# Altium schematic symbol library Schlib.SchLib: 10 symbols
Pins are listed as number, name and electrical type; pins without a type are passive.

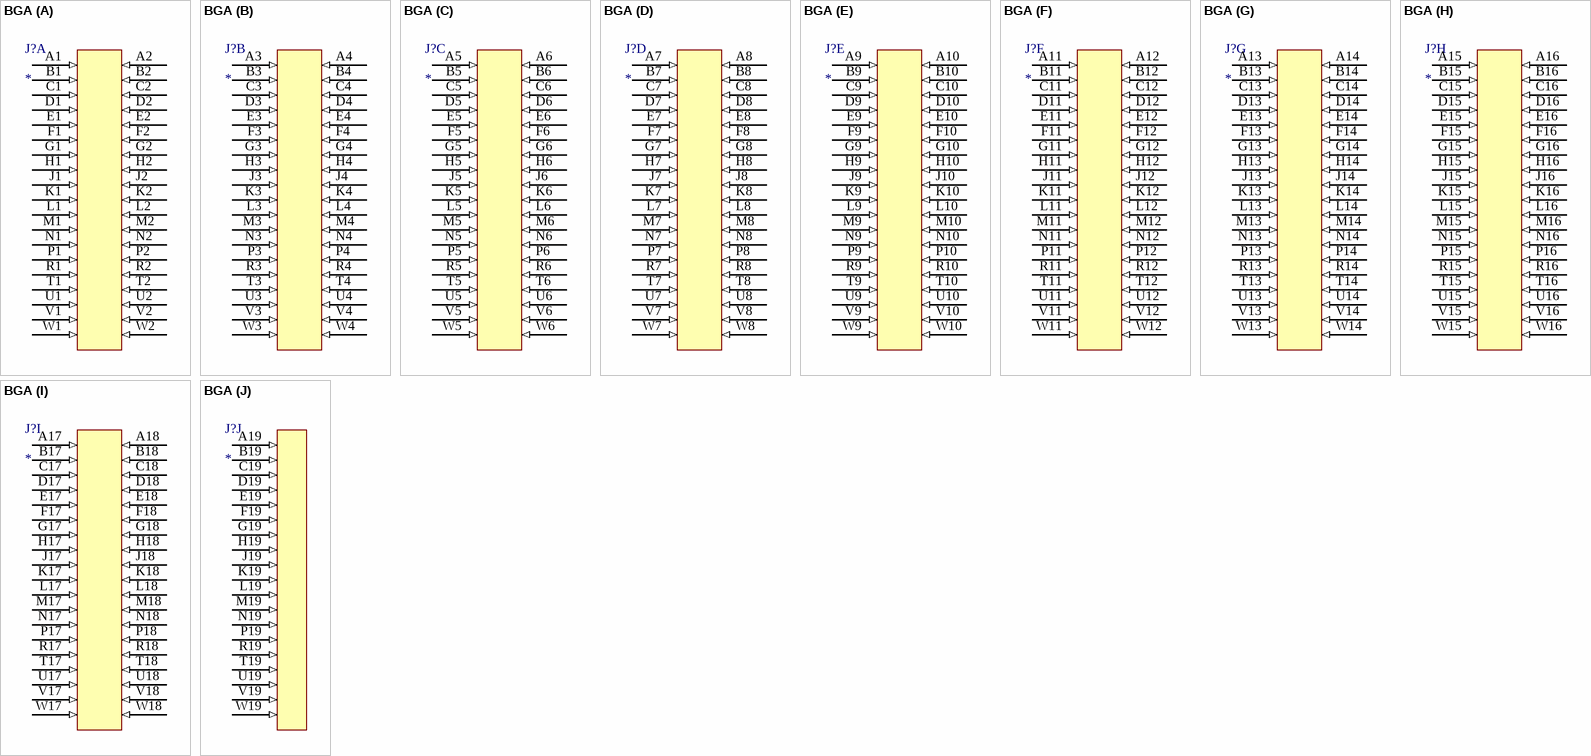
[diagram p0: symbol BGA]

## BGA
designator J?
footprint BGA361x19
part A pins: A1 (in), A2 (in), B1 (in), B2 (in), C1 (in), C2 (in), D1 (in), D2 (in), E1 (in), E2 (in), F1 (in), F2 (in), G1 (in), G2 (in), H1 (in), H2 (in), J1 (in), J2 (in), K1 (in), K2 (in), L1 (in), L2 (in), M1 (in), M2 (in), N1 (in), N2 (in), P1 (in), P2 (in), R1 (in), R2 (in), T1 (in), T2 (in), U1 (in), U2 (in), V1 (in), V2 (in), W1 (in), W2 (in)
part B pins: A3 (in), A4 (in), B3 (in), B4 (in), C3 (in), C4 (in), D3 (in), D4 (in), E3 (in), E4 (in), F3 (in), F4 (in), G3 (in), G4 (in), H3 (in), H4 (in), J3 (in), J4 (in), K3 (in), K4 (in), L3 (in), L4 (in), M3 (in), M4 (in), N3 (in), N4 (in), P3 (in), P4 (in), R3 (in), R4 (in), T3 (in), T4 (in), U3 (in), U4 (in), V3 (in), V4 (in), W3 (in), W4 (in)
part C pins: A5 (in), A6 (in), B5 (in), B6 (in), C5 (in), C6 (in), D5 (in), D6 (in), E5 (in), E6 (in), F5 (in), F6 (in), G5 (in), G6 (in), H5 (in), H6 (in), J5 (in), J6 (in), K5 (in), K6 (in), L5 (in), L6 (in), M5 (in), M6 (in), N5 (in), N6 (in), P5 (in), P6 (in), R5 (in), R6 (in), T5 (in), T6 (in), U5 (in), U6 (in), V5 (in), V6 (in), W5 (in), W6 (in)
part D pins: A7 (in), A8 (in), B7 (in), B8 (in), C7 (in), C8 (in), D7 (in), D8 (in), E7 (in), E8 (in), F7 (in), F8 (in), G7 (in), G8 (in), H7 (in), H8 (in), J7 (in), J8 (in), K7 (in), K8 (in), L7 (in), L8 (in), M7 (in), M8 (in), N7 (in), N8 (in), P7 (in), P8 (in), R7 (in), R8 (in), T7 (in), T8 (in), U7 (in), U8 (in), V7 (in), V8 (in), W7 (in), W8 (in)
part E pins: A9 (in), A10 (in), B9 (in), B10 (in), C9 (in), C10 (in), D9 (in), D10 (in), E9 (in), E10 (in), F9 (in), F10 (in), G9 (in), G10 (in), H9 (in), H10 (in), J9 (in), J10 (in), K9 (in), K10 (in), L9 (in), L10 (in), M9 (in), M10 (in), N9 (in), N10 (in), P9 (in), P10 (in), R9 (in), R10 (in), T9 (in), T10 (in), U9 (in), U10 (in), V9 (in), V10 (in), W9 (in), W10 (in)
part F pins: A11 (in), A12 (in), B11 (in), B12 (in), C11 (in), C12 (in), D11 (in), D12 (in), E11 (in), E12 (in), F11 (in), F12 (in), G11 (in), G12 (in), H11 (in), H12 (in), J11 (in), J12 (in), K11 (in), K12 (in), L11 (in), L12 (in), M11 (in), M12 (in), N11 (in), N12 (in), P11 (in), P12 (in), R11 (in), R12 (in), T11 (in), T12 (in), U11 (in), U12 (in), V11 (in), V12 (in), W11 (in), W12 (in)
part G pins: A13 (in), A14 (in), B13 (in), B14 (in), C13 (in), C14 (in), D13 (in), D14 (in), E13 (in), E14 (in), F13 (in), F14 (in), G13 (in), G14 (in), H13 (in), H14 (in), J13 (in), J14 (in), K13 (in), K14 (in), L13 (in), L14 (in), M13 (in), M14 (in), N13 (in), N14 (in), P13 (in), P14 (in), R13 (in), R14 (in), T13 (in), T14 (in), U13 (in), U14 (in), V13 (in), V14 (in), W13 (in), W14 (in)
part H pins: A15 (in), A16 (in), B15 (in), B16 (in), C15 (in), C16 (in), D15 (in), D16 (in), E15 (in), E16 (in), F15 (in), F16 (in), G15 (in), G16 (in), H15 (in), H16 (in), J15 (in), J16 (in), K15 (in), K16 (in), L15 (in), L16 (in), M15 (in), M16 (in), N15 (in), N16 (in), P15 (in), P16 (in), R15 (in), R16 (in), T15 (in), T16 (in), U15 (in), U16 (in), V15 (in), V16 (in), W15 (in), W16 (in)
part I pins: A17 (in), A18 (in), B17 (in), B18 (in), C17 (in), C18 (in), D17 (in), D18 (in), E17 (in), E18 (in), F17 (in), F18 (in), G17 (in), G18 (in), H17 (in), H18 (in), J17 (in), J18 (in), K17 (in), K18 (in), L17 (in), L18 (in), M17 (in), M18 (in), N17 (in), N18 (in), P17 (in), P18 (in), R17 (in), R18 (in), T17 (in), T18 (in), U17 (in), U18 (in), V17 (in), V18 (in), W17 (in), W18 (in)
part J pins: A19 (in), B19 (in), C19 (in), D19 (in), E19 (in), F19 (in), G19 (in), H19 (in), J19 (in), K19 (in), L19 (in), M19 (in), N19 (in), P19 (in), R19 (in), T19 (in), U19 (in), V19 (in), W19 (in)

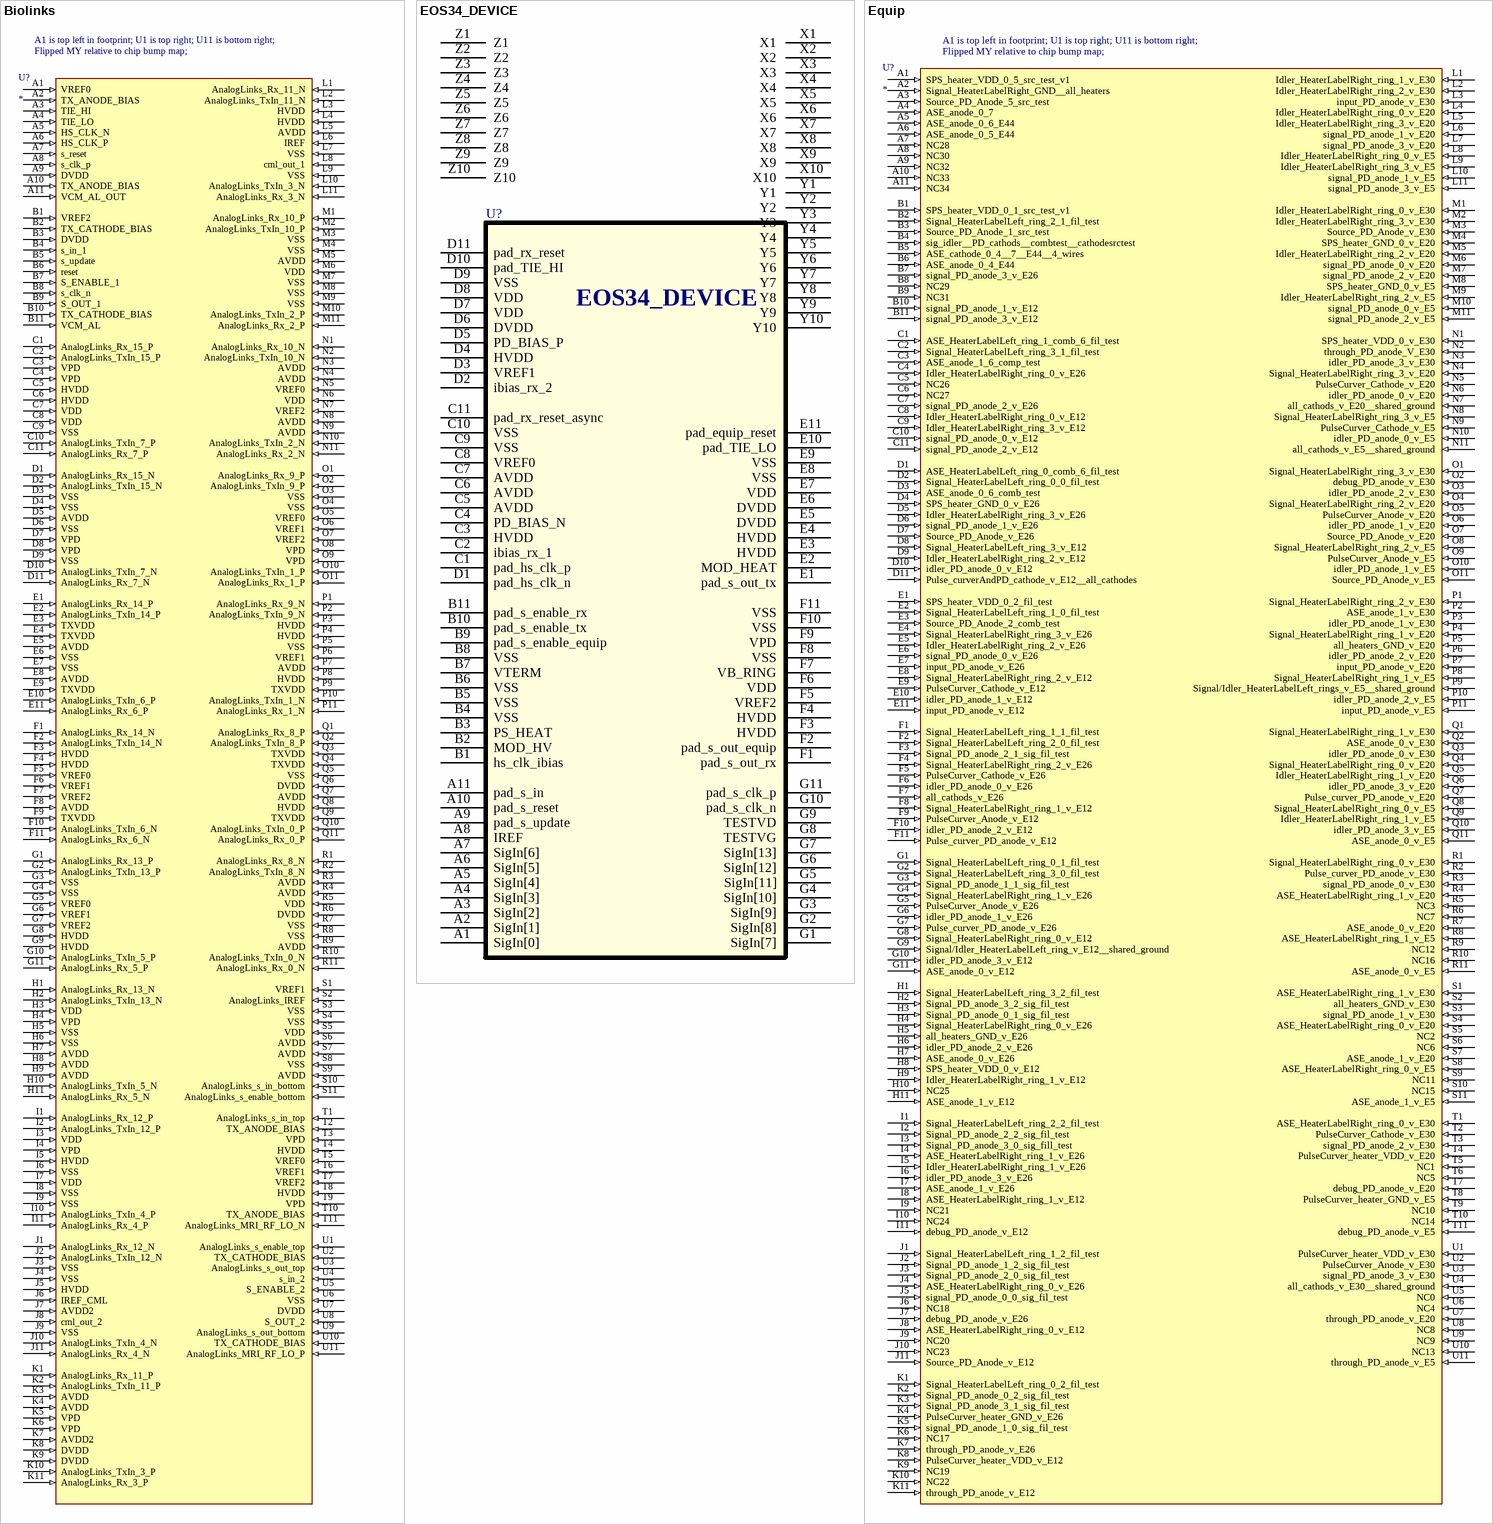
[diagram p1: symbols Biolinks to Equip]

## Biolinks
designator U?
footprint Bart_Bravo (Footprint for the 11 row, 21 column pad array used in Bravo Bart designs)
pins: A1 VREF0 (in), A2 TX_ANODE_BIAS (in), A3 TIE_HI (in), A4 TIE_LO (in), A5 HS_CLK_N (in), A6 HS_CLK_P (in), A7 s_reset (in), A8 s_clk_p (in), A9 DVDD (in), A10 TX_ANODE_BIAS (in), A11 VCM_AL_OUT (in), B1 VREF2 (in), B2 TX_CATHODE_BIAS (in), B3 DVDD (in), B4 s_in_1 (in), B5 s_update (in), B6 reset (in), B7 S_ENABLE_1 (in), B8 s_clk_n (in), B9 S_OUT_1 (in), B10 TX_CATHODE_BIAS (in), B11 VCM_AL (in), C1 AnalogLinks_Rx_15_P (in), C2 AnalogLinks_TxIn_15_P (in), C3 VPD (in), C4 VPD (in), C5 HVDD (in), C6 HVDD (in), C7 VDD (in), C8 VDD (in), C9 VSS (in), C10 AnalogLinks_TxIn_7_P (in), C11 AnalogLinks_Rx_7_P (in), D1 AnalogLinks_Rx_15_N (in), D2 AnalogLinks_TxIn_15_N (in), D3 VSS (in), D4 VSS (in), D5 AVDD (in), D6 VSS (in), D7 VPD (in), D8 VPD (in), D9 VSS (in), D10 AnalogLinks_TxIn_7_N (in), D11 AnalogLinks_Rx_7_N (in), E1 AnalogLinks_Rx_14_P (in), E2 AnalogLinks_TxIn_14_P (in), E3 TXVDD (in), E4 TXVDD (in), E5 AVDD (in), E6 VSS (in), E7 VSS (in), E8 AVDD (in), E9 TXVDD (in), E10 AnalogLinks_TxIn_6_P (in), E11 AnalogLinks_Rx_6_P (in), F1 AnalogLinks_Rx_14_N (in), F2 AnalogLinks_TxIn_14_N (in), F3 HVDD (in), F4 HVDD (in), F5 VREF0 (in), F6 VREF1 (in), F7 VREF2 (in), F8 AVDD (in), F9 TXVDD (in), F10 AnalogLinks_TxIn_6_N (in), F11 AnalogLinks_Rx_6_N (in), G1 AnalogLinks_Rx_13_P (in), G2 AnalogLinks_TxIn_13_P (in), G3 VSS (in), G4 VSS (in), G5 VREF0 (in), G6 VREF1 (in), G7 VREF2 (in), G8 HVDD (in), G9 HVDD (in), G10 AnalogLinks_TxIn_5_P (in), G11 AnalogLinks_Rx_5_P (in), H1 AnalogLinks_Rx_13_N (in), H2 AnalogLinks_TxIn_13_N (in), H3 VDD (in), H4 VPD (in), H5 VSS (in), H6 VSS (in), H7 AVDD (in), H8 AVDD (in), H9 AVDD (in), H10 AnalogLinks_TxIn_5_N (in), H11 AnalogLinks_Rx_5_N (in), I1 AnalogLinks_Rx_12_P (in), I2 AnalogLinks_TxIn_12_P (in), I3 VDD (in), I4 VPD (in), I5 HVDD (in), I6 VSS (in), I7 VDD (in), I8 VSS (in), I9 VSS (in), I10 AnalogLinks_TxIn_4_P (in), I11 AnalogLinks_Rx_4_P (in), J1 AnalogLinks_Rx_12_N (in), J2 AnalogLinks_TxIn_12_N (in), J3 VSS (in), J4 VSS (in), J5 HVDD (in), J6 IREF_CML (in), J7 AVDD2 (in), J8 cml_out_2 (in), J9 VSS (in), J10 AnalogLinks_TxIn_4_N (in), J11 AnalogLinks_Rx_4_N (in), K1 AnalogLinks_Rx_11_P (in), K2 AnalogLinks_TxIn_11_P (in), K3 AVDD (in), K4 AVDD (in), K5 VPD (in), K6 VPD (in), K7 AVDD2 (in), K8 DVDD (in), K9 DVDD (in), K10 AnalogLinks_TxIn_3_P (in), K11 AnalogLinks_Rx_3_P (in), L1 AnalogLinks_Rx_11_N (in), L2 AnalogLinks_TxIn_11_N (in), L3 HVDD (in), L4 HVDD (in), L5 AVDD (in), L6 IREF (in), L7 VSS (in), L8 cml_out_1 (in), L9 VSS (in), L10 AnalogLinks_TxIn_3_N (in), L11 AnalogLinks_Rx_3_N (in), M1 AnalogLinks_Rx_10_P (in), M2 AnalogLinks_TxIn_10_P (in), M3 VSS (in), M4 VSS (in), M5 AVDD (in), M6 VDD (in), M7 VSS (in), M8 VSS (in), M9 VSS (in), M10 AnalogLinks_TxIn_2_P (in), M11 AnalogLinks_Rx_2_P (in), N1 AnalogLinks_Rx_10_N (in), N2 AnalogLinks_TxIn_10_N (in), N3 AVDD (in), N4 AVDD (in), N5 VREF0 (in), N6 VDD (in), N7 VREF2 (in), N8 AVDD (in), N9 AVDD (in), N10 AnalogLinks_TxIn_2_N (in), N11 AnalogLinks_Rx_2_N (in), O1 AnalogLinks_Rx_9_P (in), O2 AnalogLinks_TxIn_9_P (in), O3 VSS (in), O4 VSS (in), O5 VREF0 (in), O6 VREF1 (in), O7 VREF2 (in), O8 VPD (in), O9 VPD (in), O10 AnalogLinks_TxIn_1_P (in), O11 AnalogLinks_Rx_1_P (in), P1 AnalogLinks_Rx_9_N (in), P2 AnalogLinks_TxIn_9_N (in), P3 HVDD (in), P4 HVDD (in), P5 VSS (in), P6 VREF1 (in), P7 AVDD (in), P8 HVDD (in), P9 TXVDD (in), P10 AnalogLinks_TxIn_1_N (in), P11 AnalogLinks_Rx_1_N (in), Q1 AnalogLinks_Rx_8_P (in), Q2 AnalogLinks_TxIn_8_P (in), Q3 TXVDD (in), Q4 TXVDD (in), Q5 VSS (in), Q6 DVDD (in), Q7 AVDD (in), Q8 HVDD (in), Q9 TXVDD (in), Q10 AnalogLinks_TxIn_0_P (in), Q11 AnalogLinks_Rx_0_P (in), R1 AnalogLinks_Rx_8_N (in), R2 AnalogLinks_TxIn_8_N (in), R3 AVDD (in), R4 AVDD (in), R5 VDD (in), R6 DVDD (in), R7 VSS (in), R8 VSS (in), R9 AVDD (in), R10 AnalogLinks_TxIn_0_N (in), R11 AnalogLinks_Rx_0_N (in), S1 VREF1 (in), S2 AnalogLinks_IREF (in), S3 VSS (in), S4 VSS (in), S5 VDD (in), S6 AVDD (in), S7 AVDD (in), S8 VSS (in), S9 AVDD (in), S10 AnalogLinks_s_in_bottom (in), S11 AnalogLinks_s_enable_bottom (in), T1 AnalogLinks_s_in_top (in), T2 TX_ANODE_BIAS (in), T3 VPD (in), T4 HVDD (in), T5 VREF0 (in), T6 VREF1 (in), T7 VREF2 (in), T8 HVDD (in), T9 VPD (in), T10 TX_ANODE_BIAS (in), T11 AnalogLinks_MRI_RF_LO_N (in), U1 AnalogLinks_s_enable_top (in), U2 TX_CATHODE_BIAS (in), U3 AnalogLinks_s_out_top (in), U4 s_in_2 (in), U5 S_ENABLE_2 (in), U6 VSS (in), U7 DVDD (in), U8 S_OUT_2 (in), U9 AnalogLinks_s_out_bottom (in), U10 TX_CATHODE_BIAS (in), U11 AnalogLinks_MRI_RF_LO_P (in)
text: A1 is top left in footprint; U1 is top right; U11 is bottom right;; Flipped MY relative to chip bump map;

## EOS34_DEVICE
designator U?
footprint EOS34_device
pins: A1 SigIn[0], A2 SigIn[1], A3 SigIn[2], A4 SigIn[3], A5 SigIn[4], A6 SigIn[5], A7 SigIn[6], A8 IREF, A9 pad_s_update, A10 pad_s_reset, A11 pad_s_in, B1 hs_clk_ibias, B2 MOD_HV, B3 PS_HEAT, B4 VSS, B5 VSS, B6 VSS, B7 VTERM, B8 VSS, B9 pad_s_enable_equip, B10 pad_s_enable_tx, B11 pad_s_enable_rx, C1 pad_hs_clk_p, C2 ibias_rx_1, C3 HVDD, C4 PD_BIAS_N, C5 AVDD, C6 AVDD, C7 AVDD, C8 VREF0, C9 VSS, C10 VSS, C11 pad_rx_reset_async, D1 pad_hs_clk_n, D2 ibias_rx_2, D3 VREF1, D4 HVDD, D5 PD_BIAS_P, D6 DVDD, D7 VDD, D8 VDD, D9 VSS, D10 pad_TIE_HI, D11 pad_rx_reset, E1 pad_s_out_tx, E2 MOD_HEAT, E3 HVDD, E4 HVDD, E5 DVDD, E6 DVDD, E7 VDD, E8 VSS, E9 VSS, E10 pad_TIE_LO, E11 pad_equip_reset, F1 pad_s_out_rx, F2 pad_s_out_equip, F3 HVDD, F4 HVDD, F5 VREF2, F6 VDD, F7 VB_RING, F8 VSS, F9 VPD, F10 VSS, F11 VSS, G1 SigIn[7], G2 SigIn[8], G3 SigIn[9], G4 SigIn[10], G5 SigIn[11], G6 SigIn[12], G7 SigIn[13], G8 TESTVG, G9 TESTVD, G10 pad_s_clk_n, G11 pad_s_clk_p, X1, X2, X3, X4, X5, X6, X7, X8, X9, X10, Y1, Y2, Y3, Y4, Y5, Y6, Y7, Y8, Y9, Y10, Z1, Z2, Z3, Z4, Z5, Z6, Z7, Z8, Z9, Z10

## Equip
designator U?
footprint Bart_Bravo (Footprint for the 11 row, 21 column pad array used in Bravo Bart designs)
pins: A1 SPS_heater_VDD_0_5_src_test_v1 (in), A2 Signal_HeaterLabelRight_GND__all_heaters (in), A3 Source_PD_Anode_5_src_test (in), A4 ASE_anode_0_7 (in), A5 ASE_anode_0_6_E44 (in), A6 ASE_anode_0_5_E44 (in), A7 NC28 (in), A8 NC30 (in), A9 NC32 (in), A10 NC33 (in), A11 NC34 (in), B1 SPS_heater_VDD_0_1_src_test_v1 (in), B2 Signal_HeaterLabelLeft_ring_2_1_fil_test (in), B3 Source_PD_Anode_1_src_test (in), B4 sig_idler__PD_cathods__combtest__cathodesrctest (in), B5 ASE_cathode_0_4__7__E44__4_wires (in), B6 ASE_anode_0_4_E44 (in), B7 signal_PD_anode_3_v_E26 (in), B8 NC29 (in), B9 NC31 (in), B10 signal_PD_anode_1_v_E12 (in), B11 signal_PD_anode_3_v_E12 (in), C1 ASE_HeaterLabelLeft_ring_1_comb_6_fil_test (in), C2 Signal_HeaterLabelLeft_ring_3_1_fil_test (in), C3 ASE_anode_1_6_comp_test (in), C4 Idler_HeaterLabelRight_ring_0_v_E26 (in), C5 NC26 (in), C6 NC27 (in), C7 signal_PD_anode_2_v_E26 (in), C8 Idler_HeaterLabelRight_ring_0_v_E12 (in), C9 Idler_HeaterLabelRight_ring_3_v_E12 (in), C10 signal_PD_anode_0_v_E12 (in), C11 signal_PD_anode_2_v_E12 (in), D1 ASE_HeaterLabelLeft_ring_0_comb_6_fil_test (in), D2 Signal_HeaterLabelLeft_ring_0_0_fil_test (in), D3 ASE_anode_0_6_comb_test (in), D4 SPS_heater_GND_0_v_E26 (in), D5 Idler_HeaterLabelRight_ring_3_v_E26 (in), D6 signal_PD_anode_1_v_E26 (in), D7 Source_PD_Anode_v_E26 (in), D8 Signal_HeaterLabelLeft_ring_3_v_E12 (in), D9 Idler_HeaterLabelRight_ring_2_v_E12 (in), D10 idler_PD_anode_0_v_E12 (in), D11 Pulse_curverAndPD_cathode_v_E12__all_cathodes (in), E1 SPS_heater_VDD_0_2_fil_test (in), E2 Signal_HeaterLabelLeft_ring_1_0_fil_test (in), E3 Source_PD_Anode_2_comb_test (in), E4 Signal_HeaterLabelRight_ring_3_v_E26 (in), E5 Idler_HeaterLabelRight_ring_2_v_E26 (in), E6 signal_PD_anode_0_v_E26 (in), E7 input_PD_anode_v_E26 (in), E8 Signal_HeaterLabelRight_ring_2_v_E12 (in), E9 PulseCurver_Cathode_v_E12 (in), E10 idler_PD_anode_1_v_E12 (in), E11 input_PD_anode_v_E12 (in), F1 Signal_HeaterLabelLeft_ring_1_1_fil_test (in), F2 Signal_HeaterLabelLeft_ring_2_0_fil_test (in), F3 Signal_PD_anode_2_1_sig_fil_test (in), F4 Signal_HeaterLabelRight_ring_2_v_E26 (in), F5 PulseCurver_Cathode_v_E26 (in), F6 idler_PD_anode_0_v_E26 (in), F7 all_cathods_v_E26 (in), F8 Signal_HeaterLabelRight_ring_1_v_E12 (in), F9 PulseCurver_Anode_v_E12 (in), F10 idler_PD_anode_2_v_E12 (in), F11 Pulse_curver_PD_anode_v_E12 (in), G1 Signal_HeaterLabelLeft_ring_0_1_fil_test (in), G2 Signal_HeaterLabelLeft_ring_3_0_fil_test (in), G3 Signal_PD_anode_1_1_sig_fil_test (in), G4 Signal_HeaterLabelRight_ring_1_v_E26 (in), G5 PulseCurver_Anode_v_E26 (in), G6 idler_PD_anode_1_v_E26 (in), G7 Pulse_curver_PD_anode_v_E26 (in), G8 Signal_HeaterLabelRight_ring_0_v_E12 (in), G9 Signal/Idler_HeaterLabelLeft_ring_v_E12__shared_ground (in), G10 idler_PD_anode_3_v_E12 (in), G11 ASE_anode_0_v_E12 (in), H1 Signal_HeaterLabelLeft_ring_3_2_fil_test (in), H2 Signal_PD_anode_3_2_sig_fil_test (in), H3 Signal_PD_anode_0_1_sig_fil_test (in), H4 Signal_HeaterLabelRight_ring_0_v_E26 (in), H5 all_heaters_GND_v_E26 (in), H6 idler_PD_anode_2_v_E26 (in), H7 ASE_anode_0_v_E26 (in), H8 SPS_heater_VDD_0_v_E12 (in), H9 Idler_HeaterLabelRight_ring_1_v_E12 (in), H10 NC25 (in), H11 ASE_anode_1_v_E12 (in), I1 Signal_HeaterLabelLeft_ring_2_2_fil_test (in), I2 Signal_PD_anode_2_2_sig_fil_test (in), I3 Signal_PD_anode_3_0_sig_fill_test (in), I4 ASE_HeaterLabelRight_ring_1_v_E26 (in), I5 Idler_HeaterLabelRight_ring_1_v_E26 (in), I6 idler_PD_anode_3_v_E26 (in), I7 ASE_anode_1_v_E26 (in), I8 ASE_HeaterLabelRight_ring_1_v_E12 (in), I9 NC21 (in), I10 NC24 (in), I11 debug_PD_anode_v_E12 (in), J1 Signal_HeaterLabelLeft_ring_1_2_fil_test (in), J2 Signal_PD_anode_1_2_sig_fil_test (in), J3 Signal_PD_anode_2_0_sig_fil_test (in), J4 ASE_HeaterLabelRight_ring_0_v_E26 (in), J5 signal_PD_anode_0_0_sig_fil_test (in), J6 NC18 (in), J7 debug_PD_anode_v_E26 (in), J8 ASE_HeaterLabelRight_ring_0_v_E12 (in), J9 NC20 (in), J10 NC23 (in), J11 Source_PD_Anode_v_E12 (in), K1 Signal_HeaterLabelLeft_ring_0_2_fil_test (in), K2 Signal_PD_anode_0_2_sig_fil_test (in), K3 Signal_PD_anode_3_1_sig_fil_test (in), K4 PulseCurver_heater_GND_v_E26 (in), K5 signal_PD_anode_1_0_sig_fil_test (in), K6 NC17 (in), K7 through_PD_anode_v_E26 (in), K8 PulseCurver_heater_VDD_v_E12 (in), K9 NC19 (in), K10 NC22 (in), K11 through_PD_anode_v_E12 (in), L1 Idler_HeaterLabelRight_ring_1_v_E30 (in), L2 Idler_HeaterLabelRight_ring_2_v_E30 (in), L3 input_PD_anode_v_E30 (in), L4 Idler_HeaterLabelRight_ring_0_v_E20 (in), L5 Idler_HeaterLabelRight_ring_3_v_E20 (in), L6 signal_PD_anode_1_v_E20 (in), L7 signal_PD_anode_3_v_E20 (in), L8 Idler_HeaterLabelRight_ring_0_v_E5 (in), L9 Idler_HeaterLabelRight_ring_3_v_E5 (in), L10 signal_PD_anode_1_v_E5 (in), L11 signal_PD_anode_3_v_E5 (in), M1 Idler_HeaterLabelRight_ring_0_v_E30 (in), M2 Idler_HeaterLabelRight_ring_3_v_E30 (in), M3 Source_PD_Anode_v_E30 (in), M4 SPS_heater_GND_0_v_E20 (in), M5 Idler_HeaterLabelRight_ring_2_v_E20 (in), M6 signal_PD_anode_0_v_E20 (in), M7 signal_PD_anode_2_v_E20 (in), M8 SPS_heater_GND_0_v_E5 (in), M9 Idler_HeaterLabelRight_ring_2_v_E5 (in), M10 signal_PD_anode_0_v_E5 (in), M11 signal_PD_anode_2_v_E5 (in), N1 SPS_heater_VDD_0_v_E30 (in), N2 through_PD_anode_V_E30 (in), N3 idler_PD_anode_3_v_E30 (in), N4 Signal_HeaterLabelRight_ring_3_v_E20 (in), N5 PulseCurver_Cathode_v_E20 (in), N6 idler_PD_anode_0_v_E20 (in), N7 all_cathods_v_E20__shared_ground (in), N8 Signal_HeaterLabelRight_ring_3_v_E5 (in), N9 PulseCurver_Cathode_v_E5 (in), N10 idler_PD_anode_0_v_E5 (in), N11 all_cathods_v_E5__shared_ground (in), O1 Signal_HeaterLabelRight_ring_3_v_E30 (in), O2 debug_PD_anode_v_E30 (in), O3 idler_PD_anode_2_v_E30 (in), O4 Signal_HeaterLabelRight_ring_2_v_E20 (in), O5 PulseCurver_Anode_v_E20 (in), O6 idler_PD_anode_1_v_E20 (in), O7 Source_PD_Anode_v_E20 (in), O8 Signal_HeaterLabelRight_ring_2_v_E5 (in), O9 PulseCurver_Anode_v_E5 (in), O10 idler_PD_anode_1_v_E5 (in), O11 Source_PD_Anode_v_E5 (in), P1 Signal_HeaterLabelRight_ring_2_v_E30 (in), P2 ASE_anode_1_v_E30 (in), P3 idler_PD_anode_1_v_E30 (in), P4 Signal_HeaterLabelRight_ring_1_v_E20 (in), P5 all_heaters_GND_v_E20 (in), P6 idler_PD_anode_2_v_E20 (in), P7 input_PD_anode_v_E20 (in), P8 Signal_HeaterLabelRight_ring_1_v_E5 (in), P9 Signal/Idler_HeaterLabelLeft_rings_v_E5__shared_ground (in), P10 idler_PD_anode_2_v_E5 (in), P11 input_PD_anode_v_E5 (in), Q1 Signal_HeaterLabelRight_ring_1_v_E30 (in), Q2 ASE_anode_0_v_E30 (in), Q3 idler_PD_anode_0_v_E30 (in), Q4 Signal_HeaterLabelRight_ring_0_v_E20 (in), Q5 Idler_HeaterLabelRight_ring_1_v_E20 (in), Q6 idler_PD_anode_3_v_E20 (in), Q7 Pulse_curver_PD_anode_v_E20 (in), Q8 Signal_HeaterLabelRight_ring_0_v_E5 (in), Q9 Idler_HeaterLabelRight_ring_1_v_E5 (in), Q10 idler_PD_anode_3_v_E5 (in), Q11 ASE_anode_0_v_E5 (in), R1 Signal_HeaterLabelRight_ring_0_v_E30 (in), R2 Pulse_curver_PD_anode_v_E30 (in), R3 signal_PD_anode_0_v_E30 (in), R4 ASE_HeaterLabelRight_ring_1_v_E20 (in), R5 NC3 (in), R6 NC7 (in), R7 ASE_anode_0_v_E20 (in), R8 ASE_HeaterLabelRight_ring_1_v_E5 (in), R9 NC12 (in), R10 NC16 (in), R11 ASE_anode_0_v_E5 (in), S1 ASE_HeaterLabelRight_ring_1_v_E30 (in), S2 all_heaters_GND_v_E30 (in), S3 signal_PD_anode_1_v_E30 (in), S4 ASE_HeaterLabelRight_ring_0_v_E20 (in), S5 NC2 (in), S6 NC6 (in), S7 ASE_anode_1_v_E20 (in), S8 ASE_HeaterLabelRight_ring_0_v_E5 (in), S9 NC11 (in), S10 NC15 (in), S11 ASE_anode_1_v_E5 (in), T1 ASE_HeaterLabelRight_ring_0_v_E30 (in), T2 PulseCurver_Cathode_v_E30 (in), T3 signal_PD_anode_2_v_E30 (in), T4 PulseCurver_heater_VDD_v_E20 (in), T5 NC1 (in), T6 NC5 (in), T7 debug_PD_anode_v_E20 (in), T8 PulseCurver_heater_GND_v_E5 (in), T9 NC10 (in), T10 NC14 (in), T11 debug_PD_anode_v_E5 (in), U1 PulseCurver_heater_VDD_v_E30 (in), U2 PulseCurver_Anode_v_E30 (in), U3 signal_PD_anode_3_v_E30 (in), U4 all_cathods_v_E30__shared_ground (in), U5 NC0 (in), U6 NC4 (in), U7 through_PD_anode_v_E20 (in), U8 NC8 (in), U9 NC9 (in), U10 NC13 (in), U11 through_PD_anode_v_E5 (in)
text: A1 is top left in footprint; U1 is top right; U11 is bottom right;; Flipped MY relative to chip bump map;

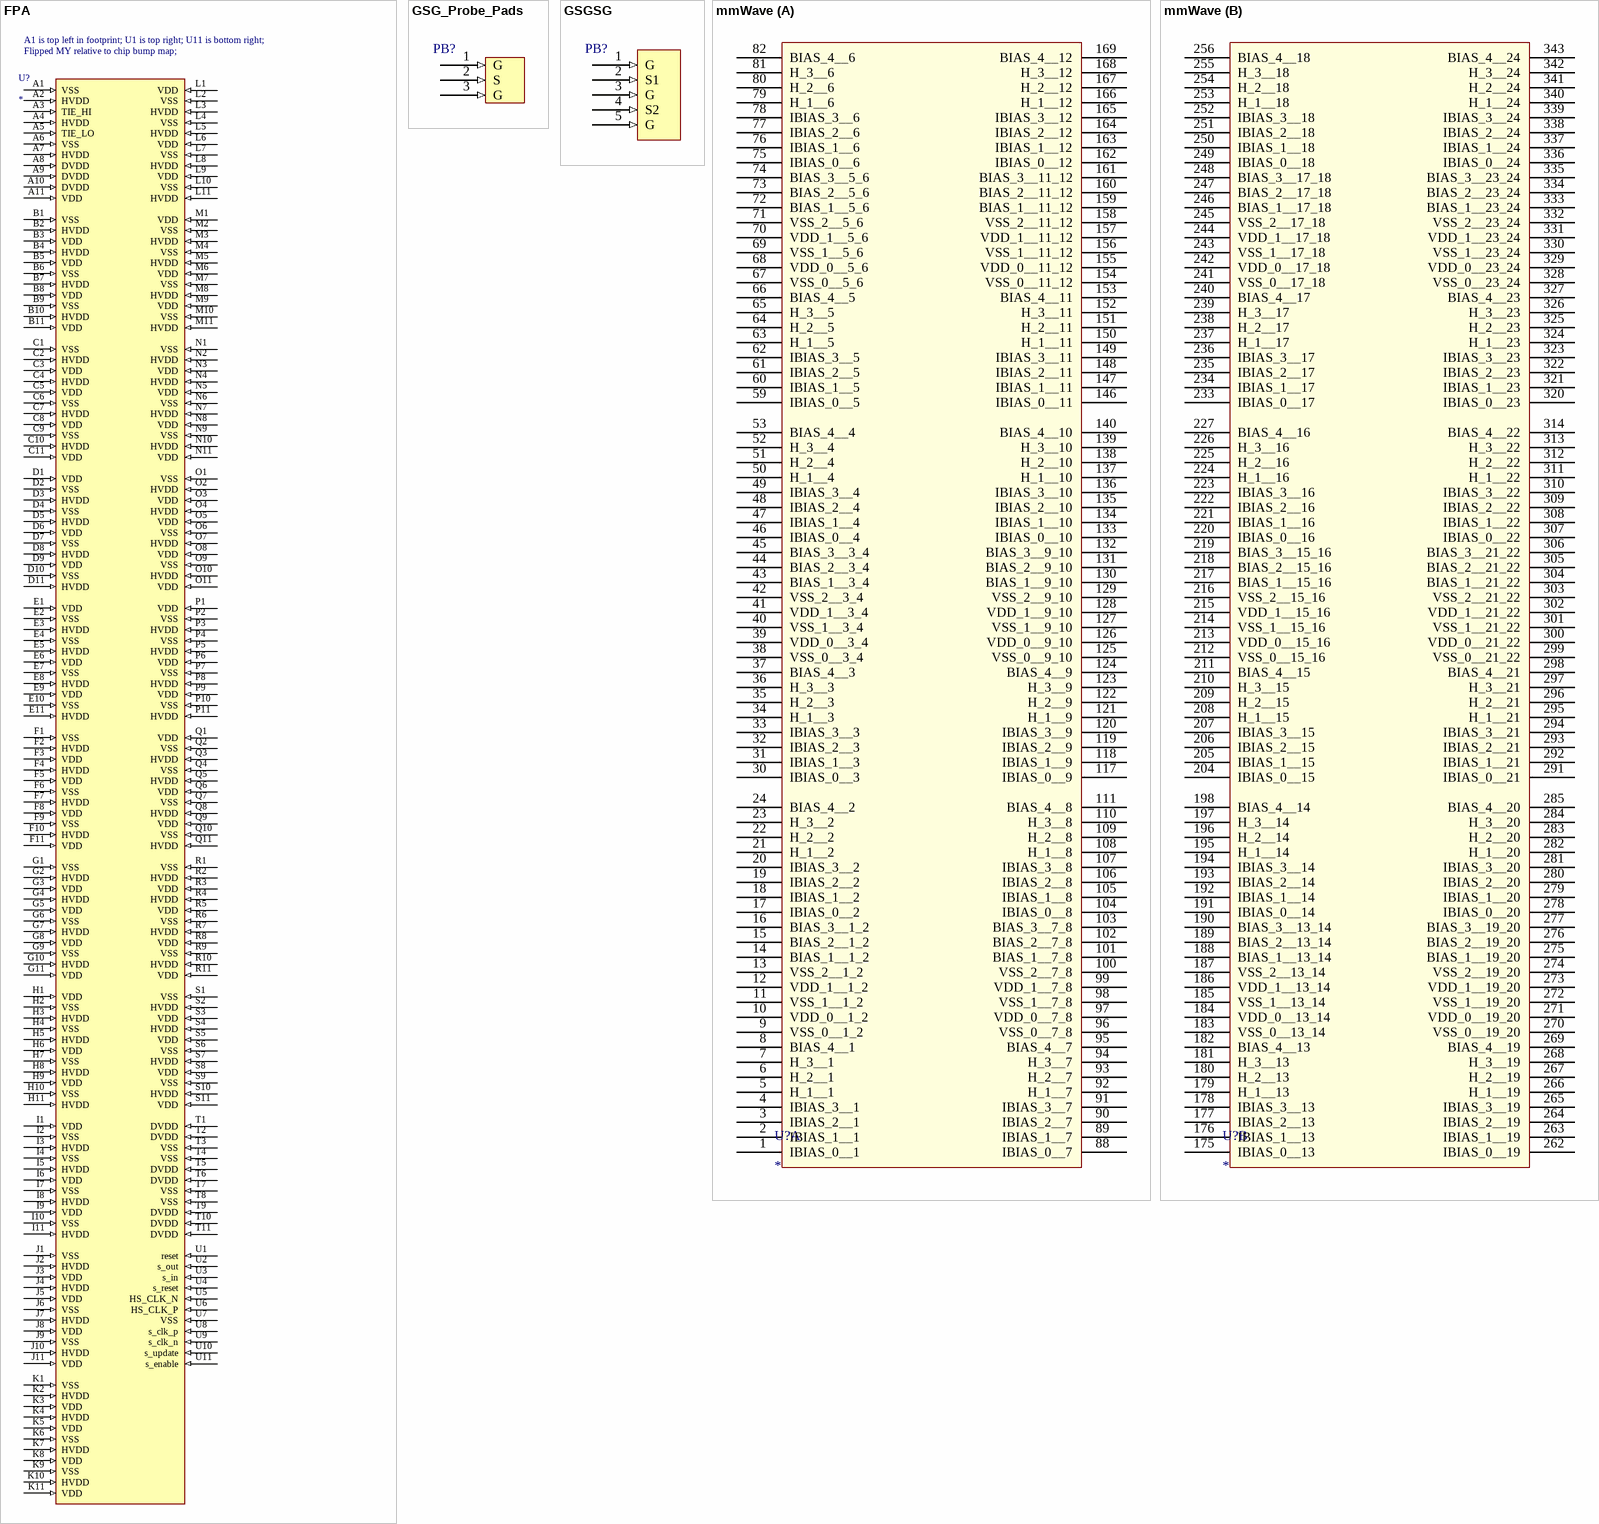
[diagram p2: symbols FPA to mmWave]

## FPA
designator U?
footprint Bart_Bravo (Footprint for the 11 row, 21 column pad array used in Bravo Bart designs)
pins: A1 VSS (in), A2 HVDD (in), A3 TIE_HI (in), A4 HVDD (in), A5 TIE_LO (in), A6 VSS (in), A7 HVDD (in), A8 DVDD (in), A9 DVDD (in), A10 DVDD (in), A11 VDD (in), B1 VSS (in), B2 HVDD (in), B3 VDD (in), B4 HVDD (in), B5 VDD (in), B6 VSS (in), B7 HVDD (in), B8 VDD (in), B9 VSS (in), B10 HVDD (in), B11 VDD (in), C1 VSS (in), C2 HVDD (in), C3 VDD (in), C4 HVDD (in), C5 VDD (in), C6 VSS (in), C7 HVDD (in), C8 VDD (in), C9 VSS (in), C10 HVDD (in), C11 VDD (in), D1 VDD (in), D2 VSS (in), D3 HVDD (in), D4 VSS (in), D5 HVDD (in), D6 VDD (in), D7 VSS (in), D8 HVDD (in), D9 VDD (in), D10 VSS (in), D11 HVDD (in), E1 VDD (in), E2 VSS (in), E3 HVDD (in), E4 VSS (in), E5 HVDD (in), E6 VDD (in), E7 VSS (in), E8 HVDD (in), E9 VDD (in), E10 VSS (in), E11 HVDD (in), F1 VSS (in), F2 HVDD (in), F3 VDD (in), F4 HVDD (in), F5 VDD (in), F6 VSS (in), F7 HVDD (in), F8 VDD (in), F9 VSS (in), F10 HVDD (in), F11 VDD (in), G1 VSS (in), G2 HVDD (in), G3 VDD (in), G4 HVDD (in), G5 VDD (in), G6 VSS (in), G7 HVDD (in), G8 VDD (in), G9 VSS (in), G10 HVDD (in), G11 VDD (in), H1 VDD (in), H2 VSS (in), H3 HVDD (in), H4 VSS (in), H5 HVDD (in), H6 VDD (in), H7 VSS (in), H8 HVDD (in), H9 VDD (in), H10 VSS (in), H11 HVDD (in), I1 VDD (in), I2 VSS (in), I3 HVDD (in), I4 VSS (in), I5 HVDD (in), I6 VDD (in), I7 VSS (in), I8 HVDD (in), I9 VDD (in), I10 VSS (in), I11 HVDD (in), J1 VSS (in), J2 HVDD (in), J3 VDD (in), J4 HVDD (in), J5 VDD (in), J6 VSS (in), J7 HVDD (in), J8 VDD (in), J9 VSS (in), J10 HVDD (in), J11 VDD (in), K1 VSS (in), K2 HVDD (in), K3 VDD (in), K4 HVDD (in), K5 VDD (in), K6 VSS (in), K7 HVDD (in), K8 VDD (in), K9 VSS (in), K10 HVDD (in), K11 VDD (in), L1 VDD (in), L2 VSS (in), L3 HVDD (in), L4 VSS (in), L5 HVDD (in), L6 VDD (in), L7 VSS (in), L8 HVDD (in), L9 VDD (in), L10 VSS (in), L11 HVDD (in), M1 VDD (in), M2 VSS (in), M3 HVDD (in), M4 VSS (in), M5 HVDD (in), M6 VDD (in), M7 VSS (in), M8 HVDD (in), M9 VDD (in), M10 VSS (in), M11 HVDD (in), N1 VSS (in), N2 HVDD (in), N3 VDD (in), N4 HVDD (in), N5 VDD (in), N6 VSS (in), N7 HVDD (in), N8 VDD (in), N9 VSS (in), N10 HVDD (in), N11 VDD (in), O1 VSS (in), O2 HVDD (in), O3 VDD (in), O4 HVDD (in), O5 VDD (in), O6 VSS (in), O7 HVDD (in), O8 VDD (in), O9 VSS (in), O10 HVDD (in), O11 VDD (in), P1 VDD (in), P2 VSS (in), P3 HVDD (in), P4 VSS (in), P5 HVDD (in), P6 VDD (in), P7 VSS (in), P8 HVDD (in), P9 VDD (in), P10 VSS (in), P11 HVDD (in), Q1 VDD (in), Q2 VSS (in), Q3 HVDD (in), Q4 VSS (in), Q5 HVDD (in), Q6 VDD (in), Q7 VSS (in), Q8 HVDD (in), Q9 VDD (in), Q10 VSS (in), Q11 HVDD (in), R1 VSS (in), R2 HVDD (in), R3 VDD (in), R4 HVDD (in), R5 VDD (in), R6 VSS (in), R7 HVDD (in), R8 VDD (in), R9 VSS (in), R10 HVDD (in), R11 VDD (in), S1 VSS (in), S2 HVDD (in), S3 VDD (in), S4 HVDD (in), S5 VDD (in), S6 VSS (in), S7 HVDD (in), S8 VDD (in), S9 VSS (in), S10 HVDD (in), S11 VDD (in), T1 DVDD (in), T2 DVDD (in), T3 VSS (in), T4 VSS (in), T5 DVDD (in), T6 DVDD (in), T7 VSS (in), T8 VSS (in), T9 DVDD (in), T10 DVDD (in), T11 DVDD (in), U1 reset (in), U2 s_out (in), U3 s_in (in), U4 s_reset (in), U5 HS_CLK_N (in), U6 HS_CLK_P (in), U7 VSS (in), U8 s_clk_p (in), U9 s_clk_n (in), U10 s_update (in), U11 s_enable (in)
text: A1 is top left in footprint; U1 is top right; U11 is bottom right;; Flipped MY relative to chip bump map;

## GSG_Probe_Pads
designator PB?  (value not drawn)
footprint GSG_Probe (150um pitch GSG probe pads)
pins: 1 G (in), 2 S (in), 3 G (in)

## GSGSG
designator PB?  (value not drawn)
footprint GSGSG_Probe (150um pitch dual GSG probe pads)
pins: 1 G (in), 2 S1 (in), 3 G (in), 4 S2 (in), 5 G (in)

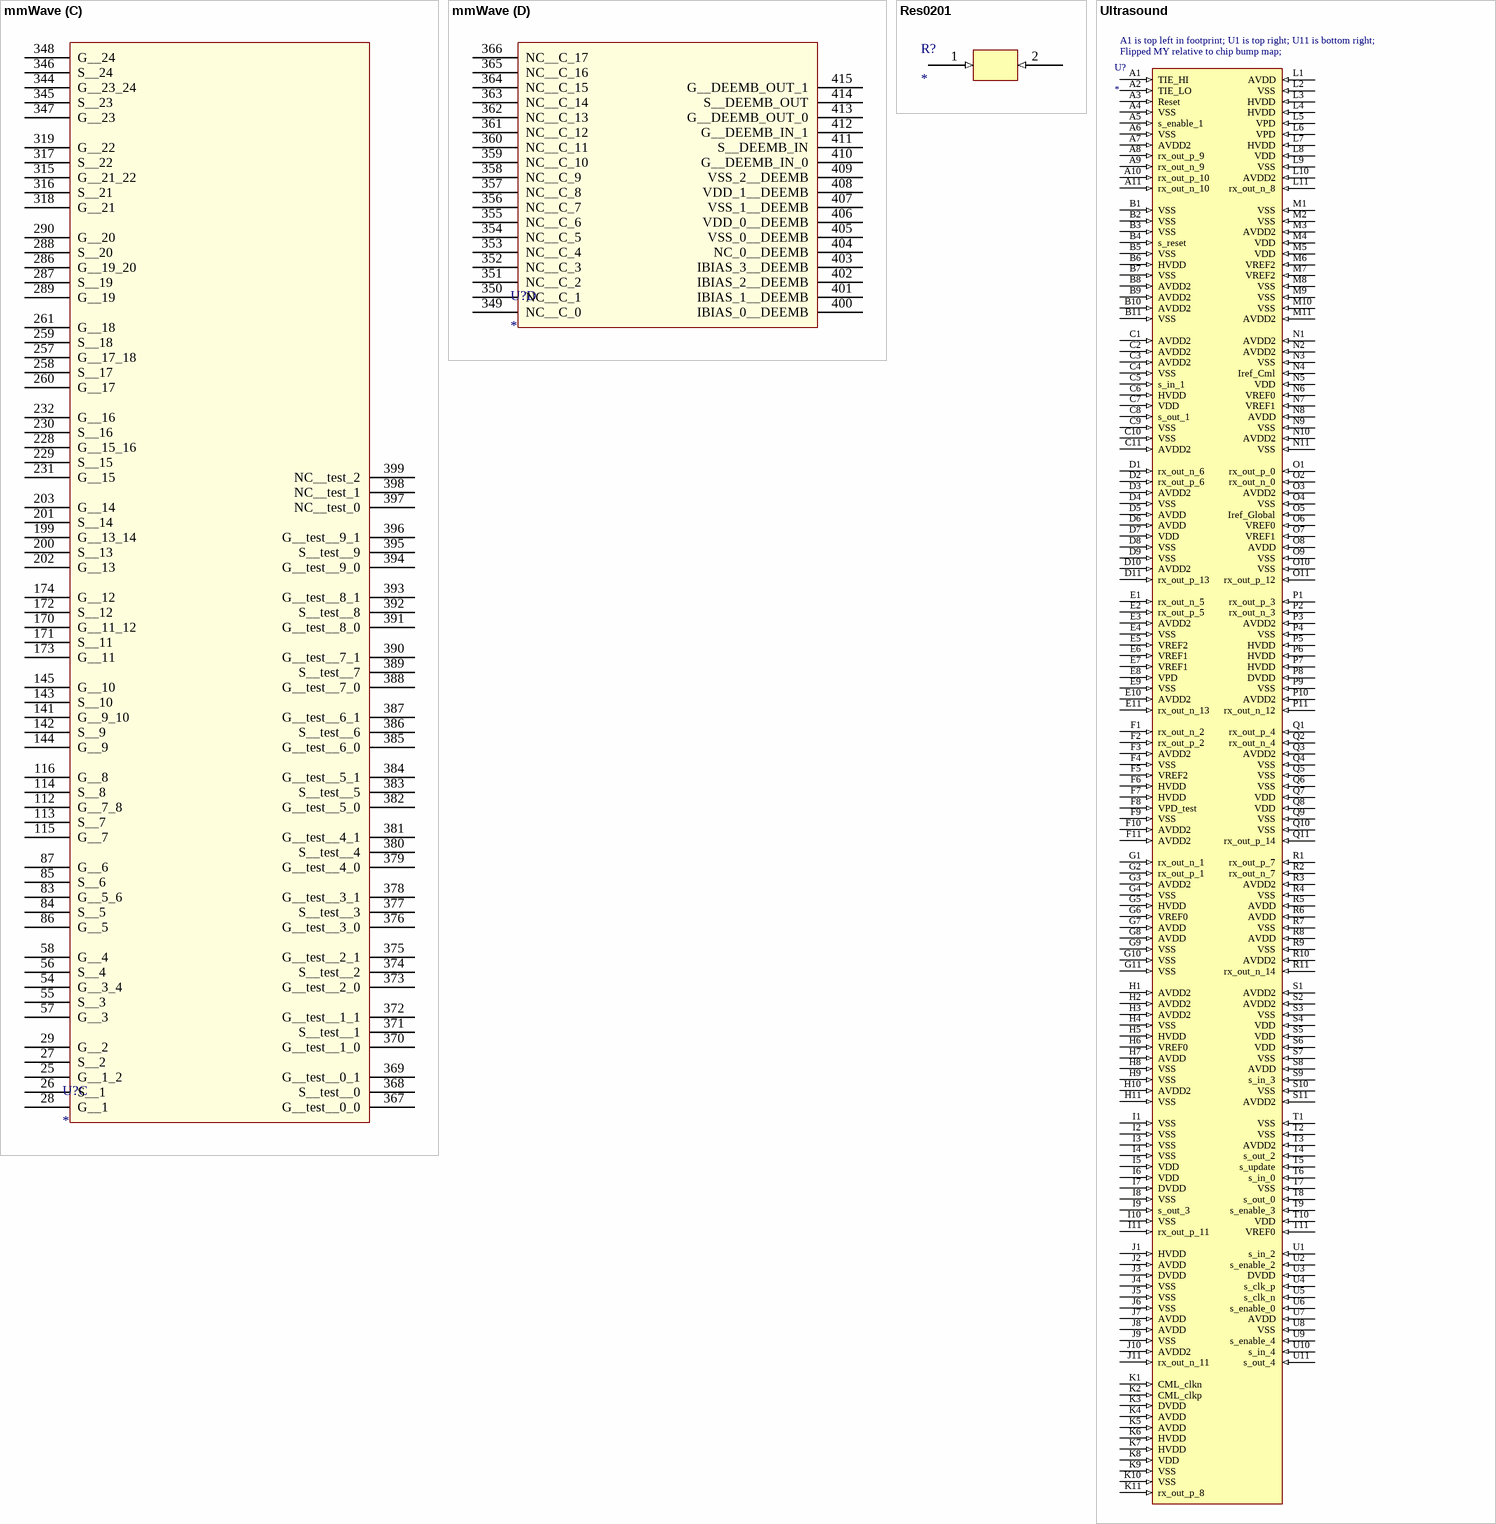
[diagram p3: symbols mmWave to Ultrasound]

## mmWave
designator U?
footprint mmWave (mmwave die)
part A pins: 1 IBIAS_0__1, 2 IBIAS_1__1, 3 IBIAS_2__1, 4 IBIAS_3__1, 5 H_1__1, 6 H_2__1, 7 H_3__1, 8 BIAS_4__1, 9 VSS_0__1_2, 10 VDD_0__1_2, 11 VSS_1__1_2, 12 VDD_1__1_2, 13 VSS_2__1_2, 14 BIAS_1__1_2, 15 BIAS_2__1_2, 16 BIAS_3__1_2, 17 IBIAS_0__2, 18 IBIAS_1__2, 19 IBIAS_2__2, 20 IBIAS_3__2, 21 H_1__2, 22 H_2__2, 23 H_3__2, 24 BIAS_4__2, 30 IBIAS_0__3, 31 IBIAS_1__3, 32 IBIAS_2__3, 33 IBIAS_3__3, 34 H_1__3, 35 H_2__3, 36 H_3__3, 37 BIAS_4__3, 38 VSS_0__3_4, 39 VDD_0__3_4, 40 VSS_1__3_4, 41 VDD_1__3_4, 42 VSS_2__3_4, 43 BIAS_1__3_4, 44 BIAS_2__3_4, 45 BIAS_3__3_4, 46 IBIAS_0__4, 47 IBIAS_1__4, 48 IBIAS_2__4, 49 IBIAS_3__4, 50 H_1__4, 51 H_2__4, 52 H_3__4, 53 BIAS_4__4, 59 IBIAS_0__5, 60 IBIAS_1__5, 61 IBIAS_2__5, 62 IBIAS_3__5, 63 H_1__5, 64 H_2__5, 65 H_3__5, 66 BIAS_4__5, 67 VSS_0__5_6, 68 VDD_0__5_6, 69 VSS_1__5_6, 70 VDD_1__5_6, 71 VSS_2__5_6, 72 BIAS_1__5_6, 73 BIAS_2__5_6, 74 BIAS_3__5_6, 75 IBIAS_0__6, 76 IBIAS_1__6, 77 IBIAS_2__6, 78 IBIAS_3__6, 79 H_1__6, 80 H_2__6, 81 H_3__6, 82 BIAS_4__6, 88 IBIAS_0__7, 89 IBIAS_1__7, 90 IBIAS_2__7, 91 IBIAS_3__7, 92 H_1__7, 93 H_2__7, 94 H_3__7, 95 BIAS_4__7, 96 VSS_0__7_8, 97 VDD_0__7_8, 98 VSS_1__7_8, 99 VDD_1__7_8, 100 VSS_2__7_8, 101 BIAS_1__7_8, 102 BIAS_2__7_8, 103 BIAS_3__7_8, 104 IBIAS_0__8, 105 IBIAS_1__8, 106 IBIAS_2__8, 107 IBIAS_3__8, 108 H_1__8, 109 H_2__8, 110 H_3__8, 111 BIAS_4__8, 117 IBIAS_0__9, 118 IBIAS_1__9, 119 IBIAS_2__9, 120 IBIAS_3__9, 121 H_1__9, 122 H_2__9, 123 H_3__9, 124 BIAS_4__9, 125 VSS_0__9_10, 126 VDD_0__9_10, 127 VSS_1__9_10, 128 VDD_1__9_10, 129 VSS_2__9_10, 130 BIAS_1__9_10, 131 BIAS_2__9_10, 132 BIAS_3__9_10, 133 IBIAS_0__10, 134 IBIAS_1__10, 135 IBIAS_2__10, 136 IBIAS_3__10, 137 H_1__10, 138 H_2__10, 139 H_3__10, 140 BIAS_4__10, 146 IBIAS_0__11, 147 IBIAS_1__11, 148 IBIAS_2__11, 149 IBIAS_3__11, 150 H_1__11, 151 H_2__11, 152 H_3__11, 153 BIAS_4__11, 154 VSS_0__11_12, 155 VDD_0__11_12, 156 VSS_1__11_12, 157 VDD_1__11_12, 158 VSS_2__11_12, 159 BIAS_1__11_12, 160 BIAS_2__11_12, 161 BIAS_3__11_12, 162 IBIAS_0__12, 163 IBIAS_1__12, 164 IBIAS_2__12, 165 IBIAS_3__12, 166 H_1__12, 167 H_2__12, 168 H_3__12, 169 BIAS_4__12
part B pins: 175 IBIAS_0__13, 176 IBIAS_1__13, 177 IBIAS_2__13, 178 IBIAS_3__13, 179 H_1__13, 180 H_2__13, 181 H_3__13, 182 BIAS_4__13, 183 VSS_0__13_14, 184 VDD_0__13_14, 185 VSS_1__13_14, 186 VDD_1__13_14, 187 VSS_2__13_14, 188 BIAS_1__13_14, 189 BIAS_2__13_14, 190 BIAS_3__13_14, 191 IBIAS_0__14, 192 IBIAS_1__14, 193 IBIAS_2__14, 194 IBIAS_3__14, 195 H_1__14, 196 H_2__14, 197 H_3__14, 198 BIAS_4__14, 204 IBIAS_0__15, 205 IBIAS_1__15, 206 IBIAS_2__15, 207 IBIAS_3__15, 208 H_1__15, 209 H_2__15, 210 H_3__15, 211 BIAS_4__15, 212 VSS_0__15_16, 213 VDD_0__15_16, 214 VSS_1__15_16, 215 VDD_1__15_16, 216 VSS_2__15_16, 217 BIAS_1__15_16, 218 BIAS_2__15_16, 219 BIAS_3__15_16, 220 IBIAS_0__16, 221 IBIAS_1__16, 222 IBIAS_2__16, 223 IBIAS_3__16, 224 H_1__16, 225 H_2__16, 226 H_3__16, 227 BIAS_4__16, 233 IBIAS_0__17, 234 IBIAS_1__17, 235 IBIAS_2__17, 236 IBIAS_3__17, 237 H_1__17, 238 H_2__17, 239 H_3__17, 240 BIAS_4__17, 241 VSS_0__17_18, 242 VDD_0__17_18, 243 VSS_1__17_18, 244 VDD_1__17_18, 245 VSS_2__17_18, 246 BIAS_1__17_18, 247 BIAS_2__17_18, 248 BIAS_3__17_18, 249 IBIAS_0__18, 250 IBIAS_1__18, 251 IBIAS_2__18, 252 IBIAS_3__18, 253 H_1__18, 254 H_2__18, 255 H_3__18, 256 BIAS_4__18, 262 IBIAS_0__19, 263 IBIAS_1__19, 264 IBIAS_2__19, 265 IBIAS_3__19, 266 H_1__19, 267 H_2__19, 268 H_3__19, 269 BIAS_4__19, 270 VSS_0__19_20, 271 VDD_0__19_20, 272 VSS_1__19_20, 273 VDD_1__19_20, 274 VSS_2__19_20, 275 BIAS_1__19_20, 276 BIAS_2__19_20, 277 BIAS_3__19_20, 278 IBIAS_0__20, 279 IBIAS_1__20, 280 IBIAS_2__20, 281 IBIAS_3__20, 282 H_1__20, 283 H_2__20, 284 H_3__20, 285 BIAS_4__20, 291 IBIAS_0__21, 292 IBIAS_1__21, 293 IBIAS_2__21, 294 IBIAS_3__21, 295 H_1__21, 296 H_2__21, 297 H_3__21, 298 BIAS_4__21, 299 VSS_0__21_22, 300 VDD_0__21_22, 301 VSS_1__21_22, 302 VDD_1__21_22, 303 VSS_2__21_22, 304 BIAS_1__21_22, 305 BIAS_2__21_22, 306 BIAS_3__21_22, 307 IBIAS_0__22, 308 IBIAS_1__22, 309 IBIAS_2__22, 310 IBIAS_3__22, 311 H_1__22, 312 H_2__22, 313 H_3__22, 314 BIAS_4__22, 320 IBIAS_0__23, 321 IBIAS_1__23, 322 IBIAS_2__23, 323 IBIAS_3__23, 324 H_1__23, 325 H_2__23, 326 H_3__23, 327 BIAS_4__23, 328 VSS_0__23_24, 329 VDD_0__23_24, 330 VSS_1__23_24, 331 VDD_1__23_24, 332 VSS_2__23_24, 333 BIAS_1__23_24, 334 BIAS_2__23_24, 335 BIAS_3__23_24, 336 IBIAS_0__24, 337 IBIAS_1__24, 338 IBIAS_2__24, 339 IBIAS_3__24, 340 H_1__24, 341 H_2__24, 342 H_3__24, 343 BIAS_4__24
part C pins: 25 G__1_2, 26 S__1, 27 S__2, 28 G__1, 29 G__2, 54 G__3_4, 55 S__3, 56 S__4, 57 G__3, 58 G__4, 83 G__5_6, 84 S__5, 85 S__6, 86 G__5, 87 G__6, 112 G__7_8, 113 S__7, 114 S__8, 115 G__7, 116 G__8, 141 G__9_10, 142 S__9, 143 S__10, 144 G__9, 145 G__10, 170 G__11_12, 171 S__11, 172 S__12, 173 G__11, 174 G__12, 199 G__13_14, 200 S__13, 201 S__14, 202 G__13, 203 G__14, 228 G__15_16, 229 S__15, 230 S__16, 231 G__15, 232 G__16, 257 G__17_18, 258 S__17, 259 S__18, 260 G__17, 261 G__18, 286 G__19_20, 287 S__19, 288 S__20, 289 G__19, 290 G__20, 315 G__21_22, 316 S__21, 317 S__22, 318 G__21, 319 G__22, 344 G__23_24, 345 S__23, 346 S__24, 347 G__23, 348 G__24, 367 G__test__0_0, 368 S__test__0, 369 G__test__0_1, 370 G__test__1_0, 371 S__test__1, 372 G__test__1_1, 373 G__test__2_0, 374 S__test__2, 375 G__test__2_1, 376 G__test__3_0, 377 S__test__3, 378 G__test__3_1, 379 G__test__4_0, 380 S__test__4, 381 G__test__4_1, 382 G__test__5_0, 383 S__test__5, 384 G__test__5_1, 385 G__test__6_0, 386 S__test__6, 387 G__test__6_1, 388 G__test__7_0, 389 S__test__7, 390 G__test__7_1, 391 G__test__8_0, 392 S__test__8, 393 G__test__8_1, 394 G__test__9_0, 395 S__test__9, 396 G__test__9_1, 397 NC__test_0, 398 NC__test_1, 399 NC__test_2
part D pins: 349 NC__C_0, 350 NC__C_1, 351 NC__C_2, 352 NC__C_3, 353 NC__C_4, 354 NC__C_5, 355 NC__C_6, 356 NC__C_7, 357 NC__C_8, 358 NC__C_9, 359 NC__C_10, 360 NC__C_11, 361 NC__C_12, 362 NC__C_13, 363 NC__C_14, 364 NC__C_15, 365 NC__C_16, 366 NC__C_17, 400 IBIAS_0__DEEMB, 401 IBIAS_1__DEEMB, 402 IBIAS_2__DEEMB, 403 IBIAS_3__DEEMB, 404 NC_0__DEEMB, 405 VSS_0__DEEMB, 406 VDD_0__DEEMB, 407 VSS_1__DEEMB, 408 VDD_1__DEEMB, 409 VSS_2__DEEMB, 410 G__DEEMB_IN_0, 411 S__DEEMB_IN, 412 G__DEEMB_IN_1, 413 G__DEEMB_OUT_0, 414 S__DEEMB_OUT, 415 G__DEEMB_OUT_1

## Res0201
designator R?
footprint Res0201_V2
pins: 1 (in), 2 (in)

## Ultrasound
designator U?
footprint Bart_Bravo (Footprint for the 11 row, 21 column pad array used in Bravo Bart designs)
pins: A1 TIE_HI (in), A2 TIE_LO (in), A3 Reset (in), A4 VSS (in), A5 s_enable_1 (in), A6 VSS (in), A7 AVDD2 (in), A8 rx_out_p_9 (in), A9 rx_out_n_9 (in), A10 rx_out_p_10 (in), A11 rx_out_n_10 (in), B1 VSS (in), B2 VSS (in), B3 VSS (in), B4 s_reset (in), B5 VSS (in), B6 HVDD (in), B7 VSS (in), B8 AVDD2 (in), B9 AVDD2 (in), B10 AVDD2 (in), B11 VSS (in), C1 AVDD2 (in), C2 AVDD2 (in), C3 AVDD2 (in), C4 VSS (in), C5 s_in_1 (in), C6 HVDD (in), C7 VDD (in), C8 s_out_1 (in), C9 VSS (in), C10 VSS (in), C11 AVDD2 (in), D1 rx_out_n_6 (in), D2 rx_out_p_6 (in), D3 AVDD2 (in), D4 VSS (in), D5 AVDD (in), D6 AVDD (in), D7 VDD (in), D8 VSS (in), D9 VSS (in), D10 AVDD2 (in), D11 rx_out_p_13 (in), E1 rx_out_n_5 (in), E2 rx_out_p_5 (in), E3 AVDD2 (in), E4 VSS (in), E5 VREF2 (in), E6 VREF1 (in), E7 VREF1 (in), E8 VPD (in), E9 VSS (in), E10 AVDD2 (in), E11 rx_out_n_13 (in), F1 rx_out_n_2 (in), F2 rx_out_p_2 (in), F3 AVDD2 (in), F4 VSS (in), F5 VREF2 (in), F6 HVDD (in), F7 HVDD (in), F8 VPD_test (in), F9 VSS (in), F10 AVDD2 (in), F11 AVDD2 (in), G1 rx_out_n_1 (in), G2 rx_out_p_1 (in), G3 AVDD2 (in), G4 VSS (in), G5 HVDD (in), G6 VREF0 (in), G7 AVDD (in), G8 AVDD (in), G9 VSS (in), G10 VSS (in), G11 VSS (in), H1 AVDD2 (in), H2 AVDD2 (in), H3 AVDD2 (in), H4 VSS (in), H5 HVDD (in), H6 VREF0 (in), H7 AVDD (in), H8 VSS (in), H9 VSS (in), H10 AVDD2 (in), H11 VSS (in), I1 VSS (in), I2 VSS (in), I3 VSS (in), I4 VSS (in), I5 VDD (in), I6 VDD (in), I7 DVDD (in), I8 VSS (in), I9 s_out_3 (in), I10 VSS (in), I11 rx_out_p_11 (in), J1 HVDD (in), J2 AVDD (in), J3 DVDD (in), J4 VSS (in), J5 VSS (in), J6 VSS (in), J7 AVDD (in), J8 AVDD (in), J9 VSS (in), J10 AVDD2 (in), J11 rx_out_n_11 (in), K1 CML_clkn (in), K2 CML_clkp (in), K3 DVDD (in), K4 AVDD (in), K5 AVDD (in), K6 HVDD (in), K7 HVDD (in), K8 VDD (in), K9 VSS (in), K10 VSS (in), K11 rx_out_p_8 (in), L1 AVDD (in), L2 VSS (in), L3 HVDD (in), L4 HVDD (in), L5 VPD (in), L6 VPD (in), L7 HVDD (in), L8 VDD (in), L9 VSS (in), L10 AVDD2 (in), L11 rx_out_n_8 (in), M1 VSS (in), M2 VSS (in), M3 AVDD2 (in), M4 VDD (in), M5 VDD (in), M6 VREF2 (in), M7 VREF2 (in), M8 VSS (in), M9 VSS (in), M10 VSS (in), M11 AVDD2 (in), N1 AVDD2 (in), N2 AVDD2 (in), N3 VSS (in), N4 Iref_Cml (in), N5 VDD (in), N6 VREF0 (in), N7 VREF1 (in), N8 AVDD (in), N9 VSS (in), N10 AVDD2 (in), N11 VSS (in), O1 rx_out_p_0 (in), O2 rx_out_n_0 (in), O3 AVDD2 (in), O4 VSS (in), O5 Iref_Global (in), O6 VREF0 (in), O7 VREF1 (in), O8 AVDD (in), O9 VSS (in), O10 VSS (in), O11 rx_out_p_12 (in), P1 rx_out_p_3 (in), P2 rx_out_n_3 (in), P3 AVDD2 (in), P4 VSS (in), P5 HVDD (in), P6 HVDD (in), P7 HVDD (in), P8 DVDD (in), P9 VSS (in), P10 AVDD2 (in), P11 rx_out_n_12 (in), Q1 rx_out_p_4 (in), Q2 rx_out_n_4 (in), Q3 AVDD2 (in), Q4 VSS (in), Q5 VSS (in), Q6 VSS (in), Q7 VDD (in), Q8 VDD (in), Q9 VSS (in), Q10 VSS (in), Q11 rx_out_p_14 (in), R1 rx_out_p_7 (in), R2 rx_out_n_7 (in), R3 AVDD2 (in), R4 VSS (in), R5 AVDD (in), R6 AVDD (in), R7 VSS (in), R8 AVDD (in), R9 VSS (in), R10 AVDD2 (in), R11 rx_out_n_14 (in), S1 AVDD2 (in), S2 AVDD2 (in), S3 VSS (in), S4 VDD (in), S5 VDD (in), S6 VDD (in), S7 VSS (in), S8 AVDD (in), S9 s_in_3 (in), S10 VSS (in), S11 AVDD2 (in), T1 VSS (in), T2 VSS (in), T3 AVDD2 (in), T4 s_out_2 (in), T5 s_update (in), T6 s_in_0 (in), T7 VSS (in), T8 s_out_0 (in), T9 s_enable_3 (in), T10 VDD (in), T11 VREF0 (in), U1 s_in_2 (in), U2 s_enable_2 (in), U3 DVDD (in), U4 s_clk_p (in), U5 s_clk_n (in), U6 s_enable_0 (in), U7 AVDD (in), U8 VSS (in), U9 s_enable_4 (in), U10 s_in_4 (in), U11 s_out_4 (in)
text: A1 is top left in footprint; U1 is top right; U11 is bottom right;; Flipped MY relative to chip bump map;